# Altium footprint library Motors.PCBLIB: 5 footprints
Each footprint in its own frame and in the unit in brackets; x right, y up, seen from the top. Pads: shape width x height; smd on the part's side, far side on the other; paste and mask are expansions set on the pad; w line width, h text height; cw(c..) or ccw(c..) is an arc to the next point about the centre after c.
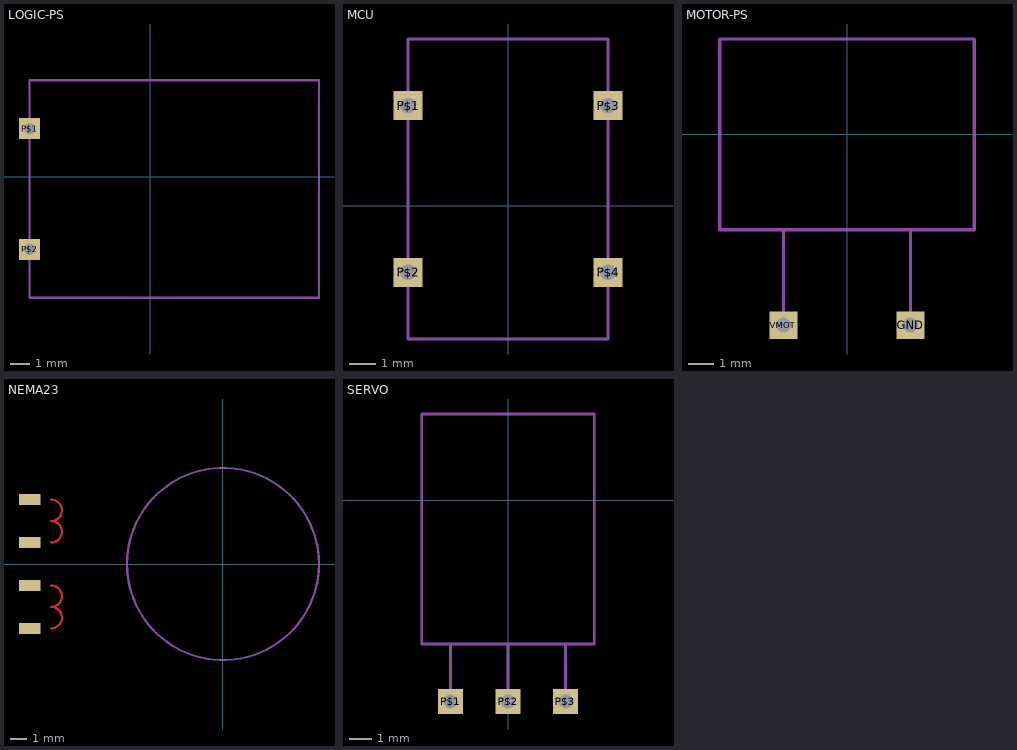
[diagram p0: the footprints below, top view; thin cyan lines are the x and y axes]

## LOGIC-PS [mil]
pads (2):
  rect 43.62x43.62 / inner round 40.3 / far side rect 43.62x43.62 hole 23.62: P$1(-250,100) P$2(-250,-150)
tPlace:
  lines w5: -250,-250 -250,200 350,200 350,-250 -250,-250

## MCU [mil]
pads (4):
  rect 43.62x43.62 / inner round 40.3 / far side rect 43.62x43.62 hole 23.62: P$1(-150,150) P$2(-150,-100) P$3(150,150) P$4(150,-100)
tPlace:
  lines w5: -150,-200 150,-200 150,250 -150,250 -150,-200

## MOTOR-PS [mil]
pads (2):
  rect 43.62x43.62 / inner round 40.3 / far side rect 43.62x43.62 hole 23.62: GND(100,-300) VMOT(-100,-300)
tPlace:
  lines w5: -100,-300 -100,-150 ; 100,-300 100,-150 ; -100,-150 100,-150 ; -100,-150 -200,-150 -200,150 200,150 200,-150 100,-150

## NEMA23 [mil]
pads (4):
  rect 50x25 smd: BLK-A(-450,150) BLU-D(-450,-150) GRN-C(-450,50) RED-B(-450,-50)
Top:
  lines w5: -400,-150 ccw(c-400,-125) -400,-100 ccw(c-400,-75) -400,-50 ; -400,50 ccw(c-400,75) -400,100 ccw(c-400,125) -400,150
tPlace:
  circle w5: c0,0 r223.61

## SERVO [mil]
pads (3):
  rect 43.62x43.62 / inner round 40.3 / far side rect 43.62x43.62 hole 23.62: P$1(-100,-350) P$2(0,-350) P$3(100,-350)
tPlace:
  lines w5: -100,-350 -100,-250 ; 0,-350 0,-250 ; 100,-350 100,-250 ; -100,-250 0,-250 ; -100,-250 -150,-250 -150,150 150,150 150,-250 100,-250 ; 0,-250 100,-250